# Altium schematic symbol library Schlib1.SchLib: 11 symbols
Pins are listed as number, name and electrical type; pins without a type are passive.

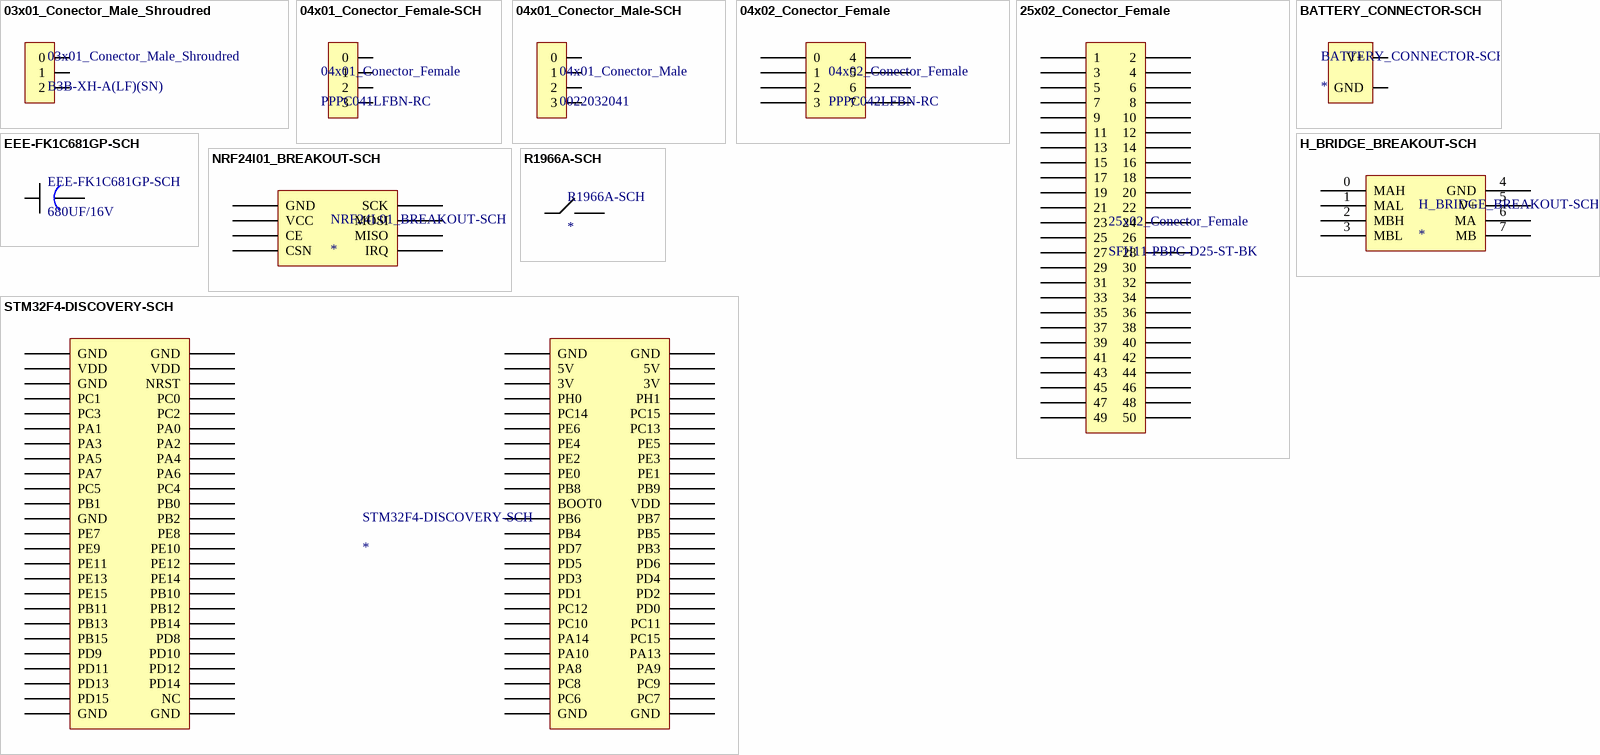
[diagram p0: symbols 03x01_Conector_Male_Shroudred to STM32F4-DISCOVERY-SCH]

## 03x01_Conector_Male_Shroudred
designator 03x01_Conector_Male_Shroudred, comment B3B-XH-A(LF)(SN)
CONN HEADER XH TOP 3POS 2.5MM
footprint 03x01_Conector_Male_Shroudred (2-644861-3)
pins: 0, 1, 2

## 04x01_Conector_Female-SCH
designator 04x01_Conector_Female, comment PPPC041LFBN-RC
4 Position Header Connector 0.100" (2.54mm) Through Hole Gold
footprint 04x01_Conector_Female (0448120004)
pins: 0, 1, 2, 3

## 04x01_Conector_Male-SCH
designator 04x01_Conector_Male, comment 0022032041
CONN HEADER 4POS .100 VERT TIN
footprint 04x01_Conector_Male (0022032041)
pins: 0, 1, 2, 3

## 04x02_Conector_Female
designator 04x02_Conector_Female, comment PPPC042LFBN-RC
8 Position Header Connector 0.100" (2.54mm) Through Hole Gold
footprint 04x02_Conector_Female (PPPC042LFBN-RC)
pins: 0, 1, 2, 3, 4, 5, 6, 7

## 25x02_Conector_Female
designator 25x02_Conector_Female, comment SFH11-PBPC-D25-ST-BK
50 Position Header Connector 0.100" (2.54mm) Through Hole Gold
footprint 25x02_Conector_Female (SFH11-PBPC-D25-ST-BK)
pins: 1, 2, 3, 4, 5, 6, 7, 8, 9, 10, 11, 12, 13, 14, 15, 16, 17, 18, 19, 20, 21, 22, 23, 24, 25, 26, 27, 28, 29, 30, 31, 32, 33, 34, 35, 36, 37, 38, 39, 40, 41, 42, 43, 44, 45, 46, 47, 48, 49, 50

## BATTERY_CONNECTOR-SCH
designator BATTERY_CONNECTOR-SCH
footprint BATTERY_CONECTO-PCB
pins: 0 V+, 1 GND

## EEE-FK1C681GP-SCH
designator EEE-FK1C681GP-SCH, comment 680UF/16V
Aluminum Electrolytic Capacitors - SMD Al Lytic Cap SMT FK Series 105C
footprint H_BRIDGE_BREAKOUT
footprint EEE-FK1C681GP (Aluminum Electrolytic Capacitor, Body 10,30x10,30x10,50mm, IPC Low Density)
pins: 1, 2

## H_BRIDGE_BREAKOUT-SCH
designator H_BRIDGE_BREAKOUT-SCH
footprint H_BRIDGE_BREAKOUT
pins: 0 MAH, 1 MAL, 2 MBH, 3 MBL, 4 GND, 5 V+, 6 MA, 7 MB

## NRF24l01_BREAKOUT-SCH
designator NRF24L01_BREAKOUT-SCH
footprint NRF24L01_BREAKOUT-PCB
pins: 0 GND, 1 VCC, 2 CE, 3 CSN, 4 SCK, 5 MOSI, 6 MISO, 7 IRQ

## R1966A-SCH
designator R1966A-SCH
footprint R1966AB-PCB (SWITCH ROCKER SPST 15A 125V)
pins: 0, 1

## STM32F4-DISCOVERY-SCH
designator STM32F4-DISCOVERY-SCH
footprint STM32F4-DISCOVERY-PCB
pins: P1_1 GND, P1_2 GND, P1_3 VDD, P1_5 GND, P1_6 NRST, P1_7 PC1, P1_8 PC0, P1_9 PC3, P1_10 PC2, P1_11 PA1, P1_12 PA0, P1_13 PA3, P1_14 PA2, P1_15 PA5, P1_16 PA4, P1_17 PA7, P1_18 PA6, P1_19 PC5, P1_20 PC4, P1_21 PB1, P1_22 PB0, P1_23 GND, P1_24 PB2, P1_24 PB7, P1_25 PE7, P1_26 PE8, P1_27 PE9, P1_28 PE10, P1_29 PE11, P1_30 PE12, P1_31 PE13, P1_32 PE14, P1_32 PD2, P1_33 PE15, P1_34 PB10, P1_35 PB11, P1_36 PB12, P1_37 PB13, P1_38 PB14, P1_39 PB15, P1_40 PD8, P1_41 PD9, P1_42 PD10, P1_43 PD11, P1_44 PD12, P1_45 PD13, P1_46 PD14, P1_47 PD15, P1_48 NC, P1_49 GND, P1_50 GND, P2_1 GND, P2_2 GND, P2_3 5V, P2_4 VDD, P2_4 5V, P2_5 3V, P2_6 3V, P2_7 PH0, P2_8 PH1, P2_9 PC14, P2_10 PC15, P2_11 PE6, P2_12 PC13, P2_13 PE4, P2_14 PE5, P2_15 PE2, P2_16 PE3, P2_17 PE0, P2_18 PE1, P2_19 PB8, P2_20 PB9, P2_21 BOOT0, P2_22 VDD, P2_23 PB6, P2_25 PB4, P2_26 PB5, P2_27 PD7, P2_28 PB3, P2_29 PD5, P2_30 PD6, P2_31 PD3, P2_32 PD4, P2_33 PD1, P2_35 PC12, P2_36 PD0, P2_37 PC10, P2_38 PC11, P2_39 PA14, P2_40 PC15, P2_41 PA10, P2_42 PA13, P2_43 PA8, P2_44 PA9, P2_45 PC8, P2_46 PC9, P2_47 PC6, P2_48 PC7, P2_49 GND, P2_50 GND